# Altium integrated library vssop8.IntLib: 1 symbol
Pins are listed as number, name and electrical type; pins without a type are passive.

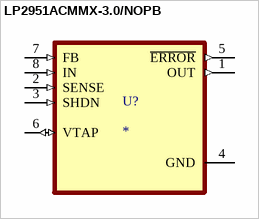
[diagram p0: symbol LP2951ACMMX-3.0/NOPB]

## LP2951ACMMX-3.0/NOPB
designator U?
100-mA, 30-V, low-dropout voltage regulator with power good & enable 8-VSSOP -40 to 125; MP: LP2951ACMMX-3.0/NOPB; MF: Texas Instruments; Value: *; Package: VSSOP-8 Texas Instruments; Check_prices: https://www.snapeda.com/parts/LP2951ACMMX-3.0/NOPB/Texas%20Instruments/view-part/1213274/?ref=eda; Price: None; Purchase-URL: https://pricing.snapeda.com/search/part/LP2951ACMMX-3.0/NOPB/?ref=eda; SnapEDA_Link: https://www.snapeda.com/parts/LP2951ACMMX-3.0/NOPB/Texas%20Instruments/view-part/1213274/?ref=snap; Availability: Warning
footprint SOP65P490X110-8N
pins: 1 OUT (out), 2 SENSE (in), 3 SHDN (in), 4 GND (power), 5 ~{ERROR} (out), 6 VTAP (io), 7 FB (in), 8 IN (in)